# EAGLE library part CON-RJ45-J0G-0007NL (library MainBoard)
RJ45 J0G-0007NL PulseJack RJ-45 connector with 11.3mm height profile. Source: http://ww2.pulseeng.com/products/datasheets/J423.pdf
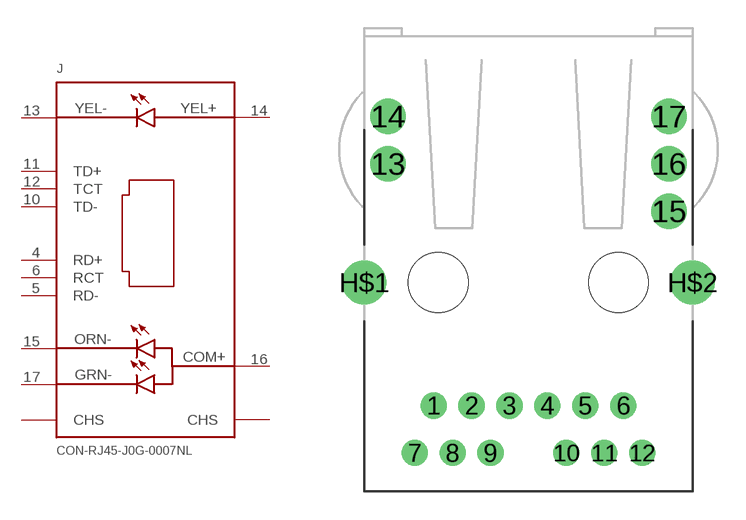
[diagram p15: symbol with the pads of J0G-0007NL; footprint J0G-0007NL]

Designator prefix J

## CON-RJ45-J0G-0007NL (DIGI-KEY#: 553-1662-ND; MF: Pulse Electronics Corporation; MPN: J0G-0007NL)  [J0G-0007NL]
1  P  nc
2  P  nc
3  P  nc
4  RD+  out
5  RD-  out
6  RCT  out
7  P  nc
8  P  nc
9  P  nc
10  TD-  in
11  TD+  in
12  TCT  in
13  YEL-  pas
14  YEL+  pas
15  ORN-  pas
16  COM+  pas
17  GRN-  pas
H$1  CHS  nc
H$2  CHS  nc

## Footprint J0G-0007NL (pad centres in mm)
PulseJack J0G-0007NL Low-Profile RJ-45 Connector 10/100/1000 Base-T RJ45 single port (1x1) Tab-UP integrated magnetics connector, designed to support applications, such as Network Interface Cards (NIC), LAN-on-Motherboard (LOM), and PC applications. Height: 11.3 mm Source: http://ww2.pulseeng.com/products/datasheets/J423.pdf
drill 0.889: 1 -5.08,-6.604; 2 -3.048,-6.604; 3 -1.016,-6.604; 4 1.016,-6.604; 5 3.048,-6.604; 6 5.08,-6.604; 7 -6.096,-9.144; 8 -4.064,-9.144; 9 -2.032,-9.144; 10 2.032,-9.144; 11 4.064,-9.144; 12 6.096,-9.144
drill 1.27: 13 -7.518,6.35; 14 -7.518,8.89; 15 7.518,3.81; 16 7.518,6.35; 17 7.518,8.89
drill 1.575: H$1 -8.788,0; H$2 8.788,0
hole 3.2 at -4.826,0
hole 3.2 at 4.826,0